# Altium schematic symbol library Test Point.SchLib: 2 symbols
Pins are listed as number, name and electrical type; pins without a type are passive.

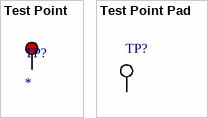
[diagram p0: symbols Test Point to Test Point Pad]

## Test Point
designator TP?
footprint TEST_POINT_40MIL_BK
footprint TEST_POINT_40MIL_G
footprint TEST_POINT_40MIL_R
footprint TEST_POINT_40MIL_W
footprint TEST_POINT_40MIL_Y (TEST TP1.4_Y)
footprint TEST_POINT_40MIL_B (Footprint not found)
pins: 1

## Test Point Pad
designator TP?
Company: SJ Libraries; Designer: Eng. Saeid Jorablo; Mounting Technology: Surface Mount\Through-Hole; ComponentLink1Description: Datasheet; Pin Count: 0; Update Date: 6/3/2012; Category: MISC; HelpURL: http://s3.picofile.com/file/7443264187/Coming_Soon_logo.gif
footprint TP19 (Round SMD Test Pin; 1.9 mm)
footprint TP07SQ (Square SMD Test Pin; 0.7 mm)
footprint TP08SQ (Square SMD Test Pin; 0.8 mm)
footprint TP07 (Round SMD Test Pin; 0.7 mm)
footprint TP10SQ (Square SMD Test Pin; 1.0 mm)
footprint TP06SQ (Square SMD Test Pin; 0.6 mm)
footprint TP11SQ (Square SMD Test Pin; 1.1 mm)
footprint TP12SQ (Square SMD Test Pin; 1.2 mm)
footprint TP13SQ (Square SMD Test Pin; 1.3 mm)
footprint TP14SQ (Square SMD Test Pin; 1.4 mm)
footprint TP15SQ (Square SMD Test Pin; 1.5 mm)
footprint TP16SQ (Square SMD Test Pin; 1.6 mm)
footprint TP17SQ (Square SMD Test Pin; 1.7 mm)
footprint TP18SQ (Square SMD Test Pin; 1.8 mm)
footprint TP19SQ (Square SMD Test Pin; 1.9 mm)
footprint TP20SQ (Square SMD Test Pin; 2.0 mm)
footprint TP06 (Round SMD Test Pin; 0.6 mm)
footprint TP20 (Round SMD Test Pin; 2.0 mm)
footprint TP18 (Round SMD Test Pin; 1.8 mm)
footprint TP17 (Round SMD Test Pin; 1.7 mm)
footprint TP16 (Round SMD Test Pin; 1.6 mm)
footprint TP15 (Round SMD Test Pin; 1.5 mm)
footprint TP14 (Round SMD Test Pin; 1.4 mm)
footprint TP13 (Round SMD Test Pin; 1.3 mm)
footprint TP12 (Round SMD Test Pin; 1.2 mm)
footprint TP11 (Round SMD Test Pin; 1.1 mm)
footprint TP10 (Round SMD Test Pin; 1.0 mm)
footprint TP09 (Round SMD Test Pin; 0.9 mm)
footprint TP09SQ (Square SMD Test Pin; 0.9 mm)
footprint TP08 (Round SMD Test Pin; 0.8 mm)
pins: 1
1 alternate drawing of the same symbol